# EAGLE library part TANG-PRIMER-25K (library TangPrimer25K)
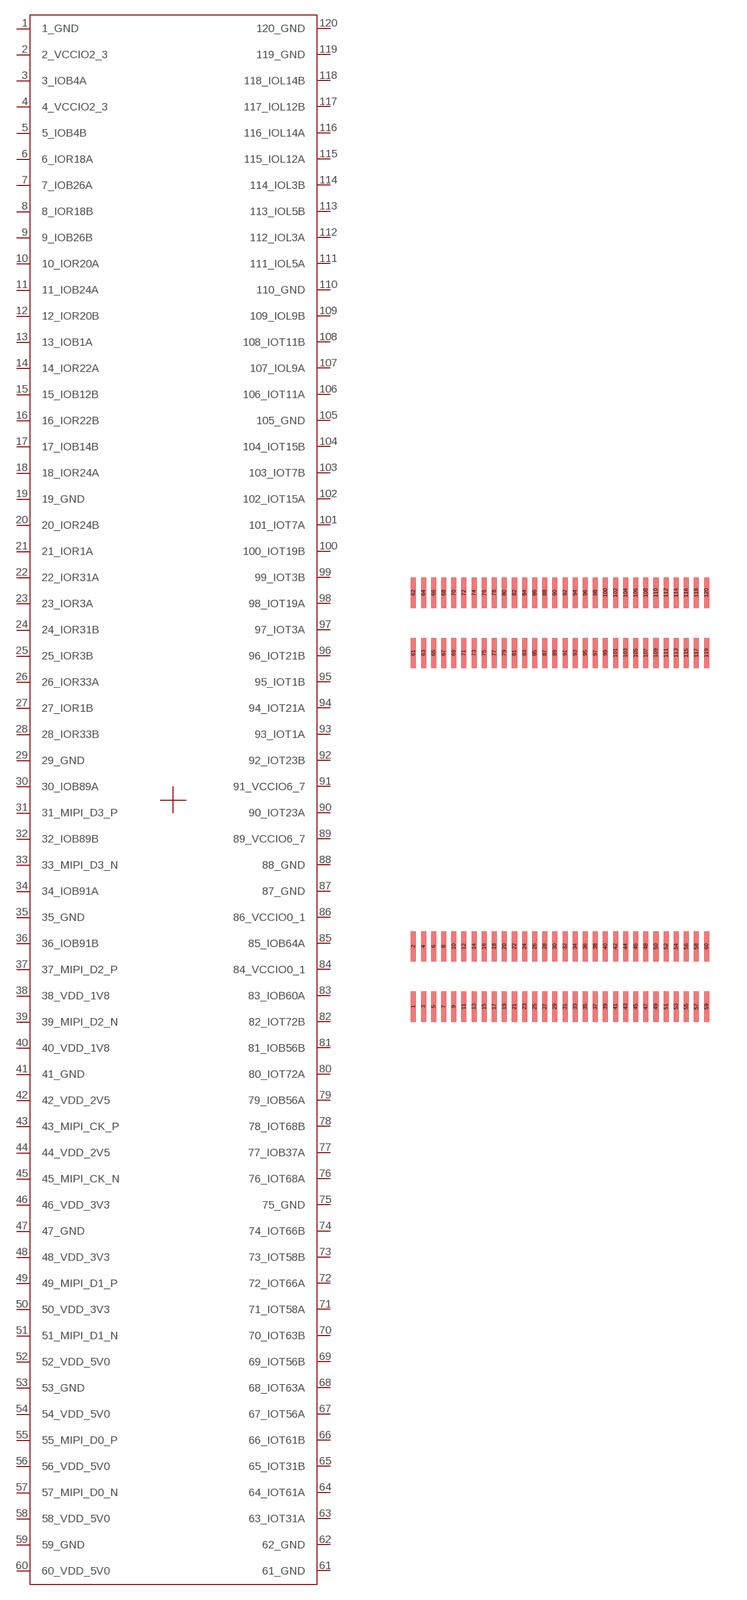
[diagram p0: symbol with the pads of SIPEED-TANG-PRIMER-25K; footprint SIPEED-TANG-PRIMER-25K]

Designator prefix U

## TANG-PRIMER-25K  [SIPEED-TANG-PRIMER-25K]
1  1_GND  pwr
2  2_VCCIO2_3  pwr
3  3_IOB4A
4  4_VCCIO2_3  pwr
5  5_IOB4B
6  6_IOR18A
7  7_IOB26A
8  8_IOR18B
9  9_IOB26B
10  10_IOR20A
11  11_IOB24A
12  12_IOR20B
13  13_IOB1A
14  14_IOR22A
15  15_IOB12B
16  16_IOR22B
17  17_IOB14B
18  18_IOR24A
19  19_GND  pwr
20  20_IOR24B
21  21_IOR1A
22  22_IOR31A
23  23_IOR3A
24  24_IOR31B
25  25_IOR3B
26  26_IOR33A
27  27_IOR1B
28  28_IOR33B
29  29_GND  pwr
30  30_IOB89A
31  31_MIPI_D3_P
32  32_IOB89B
33  33_MIPI_D3_N
34  34_IOB91A
35  35_GND  pwr
36  36_IOB91B
37  37_MIPI_D2_P
38  38_VDD_1V8  pwr
39  39_MIPI_D2_N
40  40_VDD_1V8  pwr
41  41_GND  pwr
42  42_VDD_2V5  pwr
43  43_MIPI_CK_P
44  44_VDD_2V5  pwr
45  45_MIPI_CK_N
46  46_VDD_3V3  pwr
47  47_GND  pwr
48  48_VDD_3V3  pwr
49  49_MIPI_D1_P
50  50_VDD_3V3  pwr
51  51_MIPI_D1_N
52  52_VDD_5V0  pwr
53  53_GND  pwr
54  54_VDD_5V0  pwr
55  55_MIPI_D0_P
56  56_VDD_5V0  pwr
57  57_MIPI_D0_N
58  58_VDD_5V0  pwr
59  59_GND  pwr
60  60_VDD_5V0  pwr
61  61_GND  pwr
62  62_GND  pwr
63  63_IOT31A
64  64_IOT61A
65  65_IOT31B
66  66_IOT61B
67  67_IOT56A
68  68_IOT63A
69  69_IOT56B
70  70_IOT63B
71  71_IOT58A
72  72_IOT66A
73  73_IOT58B
74  74_IOT66B
75  75_GND  pwr
76  76_IOT68A
77  77_IOB37A
78  78_IOT68B
79  79_IOB56A
80  80_IOT72A
81  81_IOB56B
82  82_IOT72B
83  83_IOB60A
84  84_VCCIO0_1  pwr
85  85_IOB64A
86  86_VCCIO0_1  pwr
87  87_GND  pwr
88  88_GND  pwr
89  89_VCCIO6_7  pwr
90  90_IOT23A
91  91_VCCIO6_7  pwr
92  92_IOT23B
93  93_IOT1A
94  94_IOT21A
95  95_IOT1B
96  96_IOT21B
97  97_IOT3A
98  98_IOT19A
99  99_IOT3B
100  100_IOT19B
101  101_IOT7A
102  102_IOT15A
103  103_IOT7B
104  104_IOT15B
105  105_GND  pwr
106  106_IOT11A
107  107_IOL9A
108  108_IOT11B
109  109_IOL9B
110  110_GND  pwr
111  111_IOL5A
112  112_IOL3A
113  113_IOL5B
114  114_IOL3B
115  115_IOL12A
116  116_IOL14A
117  117_IOL12B
118  118_IOL14B
119  119_GND  pwr
120  120_GND  pwr

## Footprint SIPEED-TANG-PRIMER-25K (pad centres in mm)
smd 0.2 x 1.2: 1 -5.8,-1.19; 2 -5.8,1.19; 3 -5.4,-1.19; 4 -5.4,1.19; 5 -5,-1.19; 6 -5,1.19; 7 -4.6,-1.19; 8 -4.6,1.19; 9 -4.2,-1.19; 10 -4.2,1.19; 11 -3.8,-1.19; 12 -3.8,1.19; 13 -3.4,-1.19; 14 -3.4,1.19; 15 -3,-1.19; 16 -3,1.19; 17 -2.6,-1.19; 18 -2.6,1.19; 19 -2.2,-1.19; 20 -2.2,1.19; 21 -1.8,-1.19; 22 -1.8,1.19; 23 -1.4,-1.19; 24 -1.4,1.19; 25 -1,-1.19; 26 -1,1.19; 27 -0.6,-1.19; 28 -0.6,1.19; 29 -0.2,-1.19; 30 -0.2,1.19; 31 0.2,-1.19; 32 0.2,1.19; 33 0.6,-1.19; 34 0.6,1.19; 35 1,-1.19; 36 1,1.19; 37 1.4,-1.19; 38 1.4,1.19; 39 1.8,-1.19; 40 1.8,1.19; 41 2.2,-1.19; 42 2.2,1.19; 43 2.6,-1.19; 44 2.6,1.19; 45 3,-1.19; 46 3,1.19; 47 3.4,-1.19; 48 3.4,1.19; 49 3.8,-1.19; 50 3.8,1.19; 51 4.2,-1.19; 52 4.2,1.19; 53 4.6,-1.19; 54 4.6,1.19; 55 5,-1.19; 56 5,1.19; 57 5.4,-1.19; 58 5.4,1.19; 59 5.8,-1.19; 60 5.8,1.19; 61 -5.8,12.81; 62 -5.8,15.19; 63 -5.4,12.81; 64 -5.4,15.19; 65 -5,12.81; 66 -5,15.19; 67 -4.6,12.81; 68 -4.6,15.19; 69 -4.2,12.81; 70 -4.2,15.19; 71 -3.8,12.81; 72 -3.8,15.19; 73 -3.4,12.81; 74 -3.4,15.19; 75 -3,12.81; 76 -3,15.19; 77 -2.6,12.81; 78 -2.6,15.19; 79 -2.2,12.81; 80 -2.2,15.19; 81 -1.8,12.81; 82 -1.8,15.19; 83 -1.4,12.81; 84 -1.4,15.19; 85 -1,12.81; 86 -1,15.19; 87 -0.6,12.81; 88 -0.6,15.19; 89 -0.2,12.81; 90 -0.2,15.19; 91 0.2,12.81; 92 0.2,15.19; 93 0.6,12.81; 94 0.6,15.19; 95 1,12.81; 96 1,15.19; 97 1.4,12.81; 98 1.4,15.19; 99 1.8,12.81; 100 1.8,15.19; 101 2.2,12.81; 102 2.2,15.19; 103 2.6,12.81; 104 2.6,15.19; 105 3,12.81; 106 3,15.19; 107 3.4,12.81; 108 3.4,15.19; 109 3.8,12.81; 110 3.8,15.19; 111 4.2,12.81; 112 4.2,15.19; 113 4.6,12.81; 114 4.6,15.19; 115 5,12.81; 116 5,15.19; 117 5.4,12.81; 118 5.4,15.19; 119 5.8,12.81; 120 5.8,15.19